# Altium footprint library VS-30BQ040.PcbLib: 1 footprints
Each footprint in its own frame and in the unit in brackets; x right, y up, seen from the top. Pads: shape width x height; smd on the part's side, far side on the other; paste and mask are expansions set on the pad; w line width, h text height; cw(c..) or ccw(c..) is an arc to the next point about the centre after c.
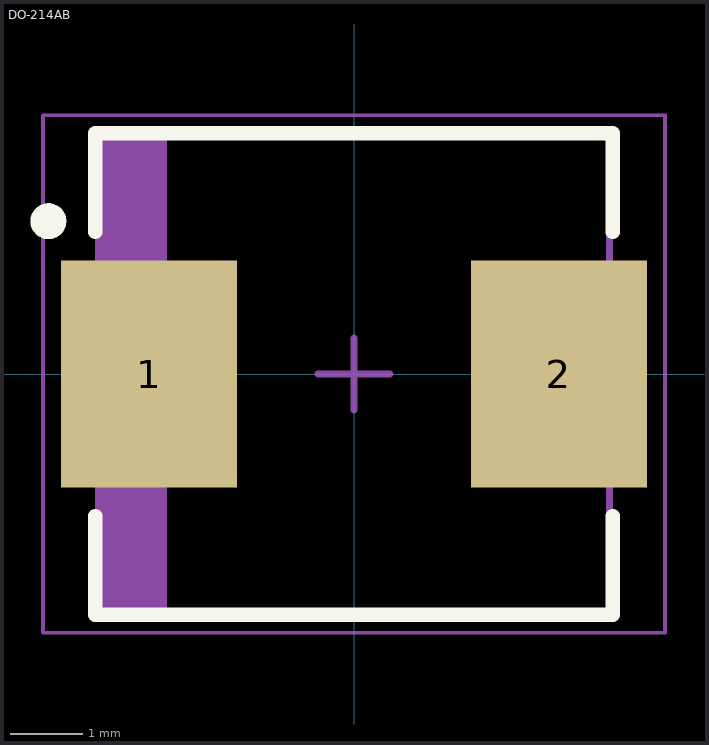
[diagram p0: the footprint, top view; thin cyan lines are the x and y axes]

## DO-214AB [mm] "Molded Diode, 2-Leads, Body 6,86x6,11mm, IPC Medium Density"
height 2.62
pads (2):
  rect 2.45x3.15 smd: 1(-2.85,0) 2(2.85,0)
Top Overlay:
  circle w0.25: c-4.25,2.125 r0.125
  lines w0.2: -3.6,-1.975 -3.6,-3.35 3.6,-3.35 3.6,-1.975 ; -3.6,1.975 -3.6,3.35 3.6,3.35 3.6,1.975
Mechanical 13:
  rectangle: -3.555,-3.31 -2.599,3.31
  lines w0.1: -3.555,-3.31 3.555,-3.31 3.555,3.31 -3.555,3.31 -3.555,-3.31
Mechanical 15:
  lines w0.05: -4.325,-3.6 4.325,-3.6 4.325,3.6 -4.325,3.6 -4.325,-3.6
  lines w0.1: -0.5,0 0.5,0 ; 0,-0.5 0,0.5
3D body "DO-214AB.step": height 2.62, standoff 0, extent -3.775,-3.31 3.775,3.31